# Altium footprint library SMT_Male_Headers_254_3POS.PcbLib: 1 footprints
Each footprint in its own frame and in the unit in brackets; x right, y up, seen from the top. Pads: shape width x height; smd on the part's side, far side on the other; paste and mask are expansions set on the pad; w line width, h text height; cw(c..) or ccw(c..) is an arc to the next point about the centre after c.
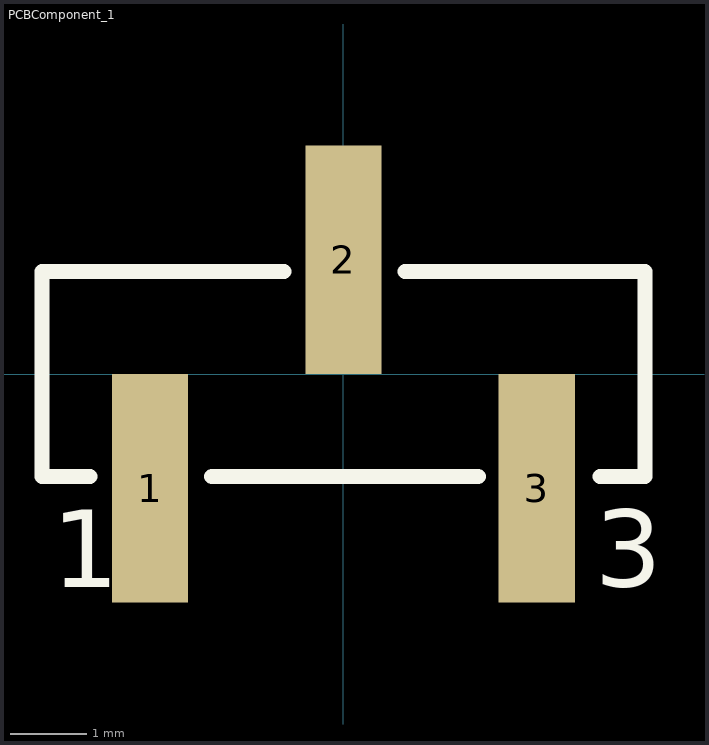
[diagram p0: the footprint, top view; thin cyan lines are the x and y axes]

## PCBComponent_1 [mm]
pads (3):
  rect 1x3 smd: 1(-2.54,-1.5) 2(0,1.5) 3(2.54,-1.5)
Top Overlay:
  lines w0.2: -3.33,-1.345 -3.96,-1.345 -3.96,1.345 -0.78,1.345 ; -1.73,-1.345 1.77,-1.345 ; 0.81,1.345 3.96,1.345 3.96,-1.345 ; 3.37,-1.345 3.937,-1.345
  text "1" at -3.83,-2.8 h1.02
  text "3" at 3.302,-2.794 h1.02
Mechanical 13:
  lines w0.1: -2.86,-1.27 -2.86,-2.5 -2.22,-2.5 -2.22,-1.27 ; -0.32,1.27 -0.32,2.5 0.32,2.5 0.32,1.27 ; 2.22,-1.27 2.22,-2.5 2.86,-2.5 2.86,-1.27
3D body "SMT_Male_Headers_254_3POS.STEP": height 10.16, standoff 0, extent -3.81,-2.54 3.81,2.54